# EAGLE library part MPXH6400A (library mpxh6400)
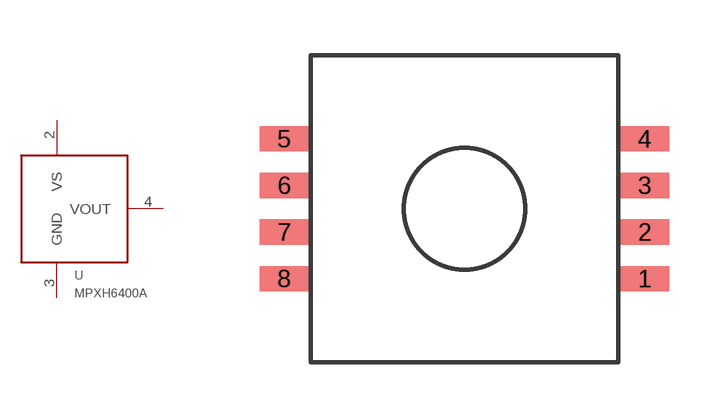
[diagram p0: symbol with the pads of SSOP8; footprint SSOP8]

Designator prefix U

## MPXH6400AC6T1  [SSOP8]
1  NC  nc
2  VS  pwr
3  GND  pwr
4  VOUT  out
5  NC  nc
6  NC  nc
7  NC  nc
8  NC  nc

## Footprint SSOP8 (pad centres in mm)
smd 1.346 x 0.686: 1 4.915,-1.905; 2 4.915,-0.635; 3 4.915,0.635; 4 4.915,1.905; 5 -4.915,1.905; 6 -4.915,0.635; 7 -4.915,-0.635; 8 -4.915,-1.905